# Altium footprint library WCAP-PSLP.PcbLib: 5 footprints
Each footprint in its own frame and in the unit in brackets; x right, y up, seen from the top. Pads: shape width x height; smd on the part's side, far side on the other; paste and mask are expansions set on the pad; w line width, h text height; cw(c..) or ccw(c..) is an arc to the next point about the centre after c.
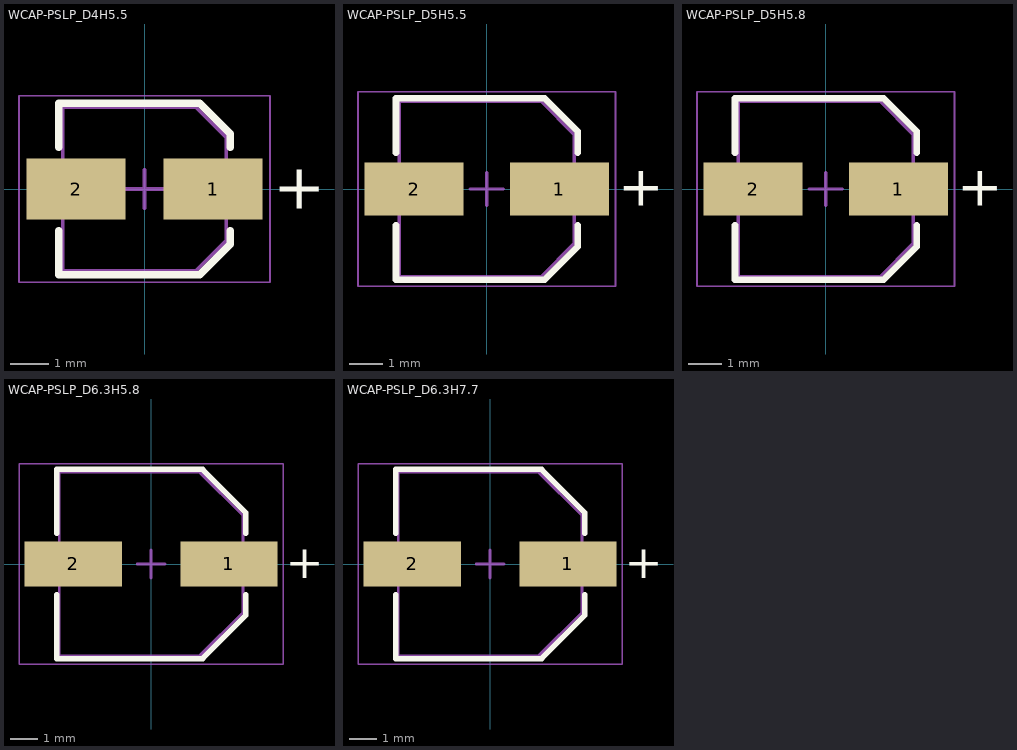
[diagram p0: the footprints below, top view; thin cyan lines are the x and y axes]

## WCAP-PSLP_D4H5.5 [mm] "Aluminum Polymer Capacitors, body diameter 4mm"
height 5.5
pads (2):
  rect 2.6x1.6 smd: 1(1.8,0) 2(-1.8,0)
Top Overlay:
  lines w0.2: -2.25,-1.1 -2.25,-2.25 1.45,-2.25 2.25,-1.45 2.25,-1.1 ; -2.25,1.1 -2.25,2.25 1.45,2.25 2.25,1.45 2.25,1.1
  text "+" at 3.386,-0.514 h1.2
Top Assembly:
  lines w0.1: -2.15,-2.15 1.35,-2.15 2.15,-1.35 2.15,1.35 1.35,2.15 -2.15,2.15 -2.15,-2.15
Top Designator:
  text ".Designator" at -3.647,-0.357 h1
Top 3D Body:
  lines w0.1: -2.15,-2.15 1.35,-2.15 2.15,-1.35 2.15,1.35 1.35,2.15 -2.15,2.15 -2.15,-2.15
Top Courtyard:
  lines w0.05: -3.3,-2.45 3.3,-2.45 3.3,2.45 -3.3,2.45 -3.3,-2.45
Top Component Center:
  lines w0.1: -0.5,0 0.5,0 ; 0,-0.5 0,0.5
3D body "4x5.5x1.stp": height 5.5, standoff 0, extent -2.5,-2.15 2.5,2.15

## WCAP-PSLP_D5H5.5 [mm] "Aluminum Polymer Capacitors, body diameter 5mm"
height 5.5
pads (2):
  rect 3x1.6 smd: 1(2.2,0) 2(-2.2,0)
Top Overlay:
  lines w0.2: -2.75,-1.1 -2.75,-2.75 1.75,-2.75 2.75,-1.75 2.75,-1.1 ; -2.75,1.1 -2.75,2.75 1.75,2.75 2.75,1.75 2.75,1.1
  text "+" at 3.986,-0.514 h1.2
Top Assembly:
  lines w0.1: -2.65,-2.65 1.65,-2.65 2.65,-1.65 2.65,1.65 1.65,2.65 -2.65,2.65 -2.65,-2.65
Top Designator:
  text ".Designator" at -3.647,-0.357 h1
Top 3D Body:
  lines w0.1: -2.65,-2.65 1.65,-2.65 2.65,-1.65 2.65,1.65 1.65,2.65 -2.65,2.65 -2.65,-2.65
Top Courtyard:
  lines w0.05: -3.9,-2.95 -3.9,2.95 3.9,2.95 3.9,-2.95 -3.9,-2.95
Top Component Center:
  lines w0.1: -0.5,0 0.5,0 ; 0,-0.5 0,0.5
3D body "5x5.5x1.4.stp": height 5.5, standoff 0, extent -3,-2.65 3,2.65

## WCAP-PSLP_D5H5.8 [mm] "Aluminum Polymer Capacitors, body diameter 5mm"
height 5.8
pads (2):
  rect 3x1.6 smd: 1(2.2,0) 2(-2.2,0)
Top Overlay:
  lines w0.2: -2.75,-1.1 -2.75,-2.75 1.75,-2.75 2.75,-1.75 2.75,-1.1 ; -2.75,1.1 -2.75,2.75 1.75,2.75 2.75,1.75 2.75,1.1
  text "+" at 3.986,-0.514 h1.2
Top Assembly:
  lines w0.1: -2.65,-2.65 1.65,-2.65 2.65,-1.65 2.65,1.65 1.65,2.65 -2.65,2.65 -2.65,-2.65
Top Designator:
  text ".Designator" at -3.647,-0.357 h1
Top 3D Body:
  lines w0.1: -2.65,-2.65 1.65,-2.65 2.65,-1.65 2.65,1.65 1.65,2.65 -2.65,2.65 -2.65,-2.65
Top Courtyard:
  lines w0.05: -3.9,-2.95 -3.9,2.95 3.9,2.95 3.9,-2.95 -3.9,-2.95
Top Component Center:
  lines w0.1: -0.5,0 0.5,0 ; 0,-0.5 0,0.5
3D body "5x5.8x1.4.stp": height 5.8, standoff 0, extent -3,-2.65 3,2.65

## WCAP-PSLP_D6.3H5.8 [mm] "Aluminum Polymer Capacitors, body diameter 6.3mm"
height 5.8
pads (2):
  rect 3.5x1.6 smd: 1(2.8,0) 2(-2.8,0)
Top Overlay:
  lines w0.2: -3.4,-1.1 -3.4,-3.4 1.85,-3.4 3.4,-1.85 3.4,-1.1 ; -3.4,1.1 -3.4,3.4 1.85,3.4 3.4,1.85 3.4,1.1
  text "+" at 4.836,-0.514 h1.2
Top Assembly:
  lines w0.1: -3.3,-3.3 1.75,-3.3 3.3,-1.75 3.3,1.75 1.75,3.3 -3.3,3.3 -3.3,-3.3
Top Designator:
  text ".Designator" at -3.647,-0.357 h1
Top 3D Body:
  lines w0.1: -3.3,-3.3 1.75,-3.3 3.3,-1.75 3.3,1.75 1.75,3.3 -3.3,3.3 -3.3,-3.3
Top Courtyard:
  lines w0.05: -4.75,-3.6 4.75,-3.6 4.75,3.6 -4.75,3.6 -4.75,-3.6
Top Component Center:
  lines w0.1: -0.5,0 0.5,0 ; 0,-0.5 0,0.5
3D body "6.3x5.8x2.2.stp": height 5.8, standoff 0, extent -3.65,-3.3 3.65,3.3

## WCAP-PSLP_D6.3H7.7 [mm] "Aluminum Polymer Capacitors, body diameter 6.3mm"
height 7.7
pads (2):
  rect 3.5x1.6 smd: 1(2.8,0) 2(-2.8,0)
Top Overlay:
  lines w0.2: -3.4,-1.1 -3.4,-3.4 1.85,-3.4 3.4,-1.85 3.4,-1.1 ; -3.4,1.1 -3.4,3.4 1.85,3.4 3.4,1.85 3.4,1.1
  text "+" at 4.836,-0.514 h1.2
Top Assembly:
  lines w0.1: -3.3,-3.3 -3.3,3.3 1.75,3.3 3.3,1.75 3.3,-1.75 1.75,-3.3 -3.3,-3.3
Top Designator:
  text ".Designator" at -3.647,-0.357 h1
Top 3D Body:
  lines w0.1: -3.3,-3.3 -3.3,3.3 1.75,3.3 3.3,1.75 3.3,-1.75 1.75,-3.3 -3.3,-3.3
Top Courtyard:
  lines w0.05: -4.75,-3.6 -4.75,3.6 4.75,3.6 4.75,-3.6 -4.75,-3.6
Top Component Center:
  lines w0.1: -0.5,0 0.5,0 ; 0,-0.5 0,0.5
3D body "6.3x7.7x2.2.stp": height 7.7, standoff 0, extent -3.65,-3.3 3.65,3.3